# Altium integrated library 7805.IntLib: 14 symbols
Pins are listed as number, name and electrical type; pins without a type are passive.

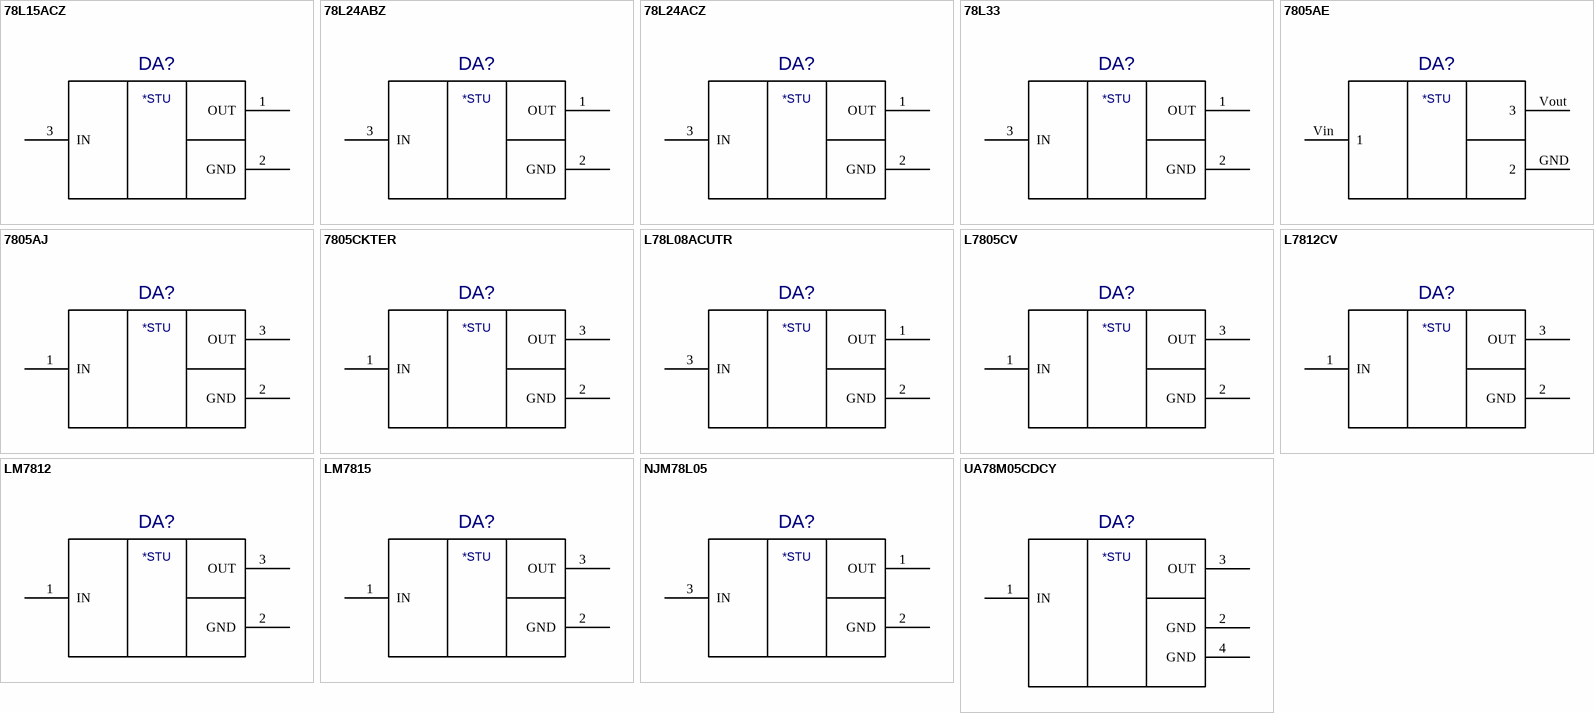
[diagram p0: symbols 78L15ACZ to UA78M05CDCY]

## 78L15ACZ
designator DA?  (value not drawn)
Value: *
footprint TO-92-2
pins: 1 OUT, 2 GND, 3 IN
text: *STU

## 78L24ABZ
designator DA?  (value not drawn)
Value: *
footprint TO-92-2
pins: 1 OUT, 2 GND, 3 IN
text: *STU

## 78L24ACZ
designator DA?  (value not drawn)
Value: *
footprint TO-92-2
pins: 1 OUT, 2 GND, 3 IN
text: *STU

## 78L33
designator DA?  (value not drawn)
Value: *
footprint TO-92-2
pins: 1 OUT, 2 GND, 3 IN
text: *STU

## 7805AE
designator DA?  (value not drawn)
Value: *
footprint TO-225AA_7805AE(Primary)
pins: GND 2, Vin 1, Vout 3
text: *STU

## 7805AJ
designator DA?  (value not drawn)
Value: *
footprint TO-220AB_Primary
footprint TO-220AB_SMD
footprint TO-220AB_Vert
pins: 1 IN, 2 GND, 3 OUT
text: *STU

## 7805CKTER
designator DA?  (value not drawn)
Value: *
footprint KTE
pins: 1 IN, 2 GND, 3 OUT, 4 hidden
text: *STU

## L78L08ACUTR
designator DA?  (value not drawn)
Value: *
footprint SOT-89
pins: 1 OUT, 2 GND, 3 IN, 4 hidden
text: *STU

## L7805CV
designator DA?  (value not drawn)
Value: *
footprint TO-220AB_Primary
footprint TO-220AB_SMD
footprint TO-220AB_Vert
pins: 1 IN, 2 GND, 3 OUT
text: *STU

## L7812CV
designator DA?  (value not drawn)
Value: *
footprint TO-220AB_Primary
footprint TO-220AB_SMD
footprint TO-220AB_Vert
pins: 1 IN, 2 GND, 3 OUT
text: *STU

## LM7812
designator DA?  (value not drawn)
Value: *
footprint DPAK
pins: 1 IN, 2 GND, 3 OUT
text: *STU

## LM7815
designator DA?  (value not drawn)
Value: *
footprint DPAK
pins: 1 IN, 2 GND, 3 OUT
text: *STU

## NJM78L05
designator DA?  (value not drawn)
Value: *
footprint SOT-89
pins: 1 OUT, 2 GND, 3 IN, 4 hidden
text: *STU

## UA78M05CDCY
designator DA?  (value not drawn)
Value: *
footprint SOT-223
pins: 1 IN, 2 GND, 3 OUT, 4 GND
text: *STU